# EAGLE library part INA241A3IDGKR (library My_Library_RADAR)
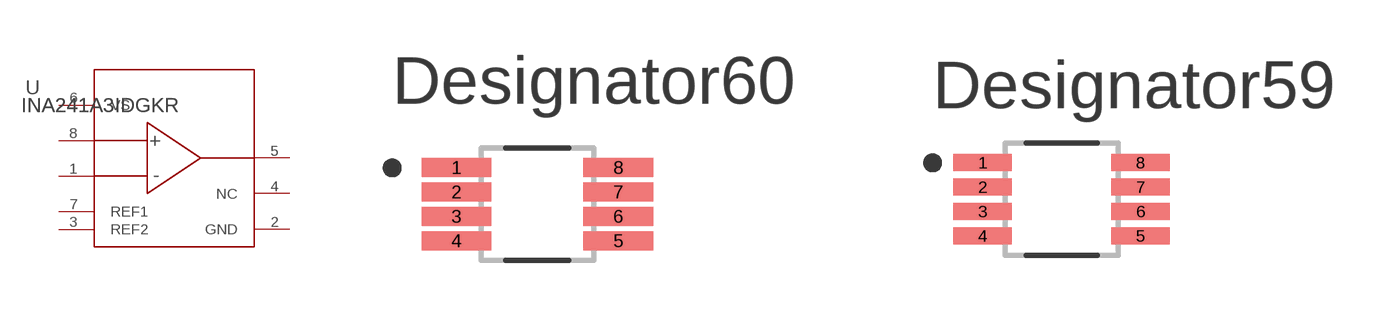
[diagram p23: symbol with the pads of DGK0008A-IPC_A; footprints DGK0008A-IPC_A, DGK0008A-IPC_B]

Designator prefix U

## INA241A3IDGKR (COPYRIGHT: Copyright (C) 2025 Ultra Librarian. All rights reserved.; DESCRIPTION: -5-V to 110-V bidirectional ultraprecise current sense amplifier with enhanced PWM rejection 8-VSSOP -40 to 125; MANUFACTURER_NAME: Texas Instruments; MANUFACTURER_PART_NUMBER: INA241A3IDGKR; REFDES: RefDes; TYPE: TYPE)  [DGK0008A-IPC_A]
1  IN-  hiz
2  GND  pwr
3  REF2  pas
4  NC  pas
5  OUT  pas
6  VS  pwr
7  REF1  pas
8  IN+  hiz

## INA241A3IDGKRDGK0008A-IPC_B (COPYRIGHT: Copyright (C) 2025 Ultra Librarian. All rights reserved.; DESCRIPTION: -5-V to 110-V bidirectional ultraprecise current sense amplifier with enhanced PWM rejection 8-VSSOP -40 to 125; MANUFACTURER_NAME: Texas Instruments; MANUFACTURER_PART_NUMBER: INA241A3IDGKR; REFDES: RefDes; TYPE: TYPE)  [DGK0008A-IPC_B]
Pads as for DGK0008A-IPC_A

## INA241A3IDGKRDGK0008A-IPC_C (COPYRIGHT: Copyright (C) 2025 Ultra Librarian. All rights reserved.; DESCRIPTION: -5-V to 110-V bidirectional ultraprecise current sense amplifier with enhanced PWM rejection 8-VSSOP -40 to 125; MANUFACTURER_NAME: Texas Instruments; MANUFACTURER_PART_NUMBER: INA241A3IDGKR; REFDES: RefDes; TYPE: TYPE)  [DGK0008A-IPC_C]
Pads as for DGK0008A-IPC_A

## INA241A3IDGKRDGK0008A-MFG (COPYRIGHT: Copyright (C) 2025 Ultra Librarian. All rights reserved.; DESCRIPTION: -5-V to 110-V bidirectional ultraprecise current sense amplifier with enhanced PWM rejection 8-VSSOP -40 to 125; MANUFACTURER_NAME: Texas Instruments; MANUFACTURER_PART_NUMBER: INA241A3IDGKR; REFDES: RefDes; TYPE: TYPE)  [DGK0008A-MFG]
Pads as for DGK0008A-IPC_A

## Footprint DGK0008A-IPC_A (pad centres in mm)
smd 1.857 x 0.498: 1 -2.151,0.975; 2 -2.151,0.325; 3 -2.151,-0.325; 4 -2.151,-0.975; 5 2.151,-0.975; 6 2.151,-0.325; 7 2.151,0.325; 8 2.151,0.975

## Footprint DGK0008A-IPC_B (pad centres in mm)
smd 1.557 x 0.458: 1 -2.101,0.975; 2 -2.101,0.325; 3 -2.101,-0.325; 4 -2.101,-0.975; 5 2.101,-0.975; 6 2.101,-0.325; 7 2.101,0.325; 8 2.101,0.975

## Footprint DGK0008A-IPC_C (pad centres in mm)
smd 1.257 x 0.418: 1 -2.051,0.975; 2 -2.051,0.325; 3 -2.051,-0.325; 4 -2.051,-0.975; 5 2.051,-0.975; 6 2.051,-0.325; 7 2.051,0.325; 8 2.051,0.975

## Footprint DGK0008A-MFG (pad centres in mm)
smd 1.4 x 0.45: 1 -2.2,0.975; 2 -2.2,0.325; 3 -2.2,-0.325; 4 -2.2,-0.975; 5 2.2,-0.975; 6 2.2,-0.325; 7 2.2,0.325; 8 2.2,0.975